# Altium schematic symbol library Schlib1.SchLib: 1 symbol
Pins are listed as number, name and electrical type; pins without a type are passive.

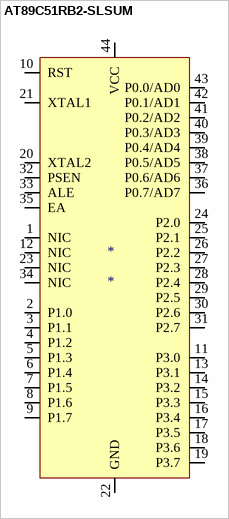
[diagram p0: symbol AT89C51RB2-SLSUM]

## AT89C51RB2-SLSUM
designator *
MCU 8-bit AT89 80C51 CISC 32KB Flash 3.3V/5V 44-Pin VQFP Tray; Manufacturer: Microchip / Atmel; Manufacturer Part Number: AT89C51RB2-SLSUM; Description: MCU 8-bit AT89 8051 CISC 16KB Flash 3.3V/5V 44-Pin PLCC Stick; Core Architecture: 8051; Interface: SPI,UART,USART; Peripherals: POR,PWM,WDT; RAM Size: 1.25KB; Max Power Dissipation: 1W; Number of I/Os: 32; Number of Timers/Counters: 3; Watchdog Timer: Yes; Max Supply Voltage: 5.5V; Min Supply Voltage: 2.7V; Frequency: 60MHz; Memory Size: 16KB; Oscillator Type: External; Data Bus Width: 8b; Access Time: 60us; Supplier 1: Digi-Key; RoHS: Yes; Category: Microcontrollers; Stock 1: 4189; Pricing 1: 1=5.21000, 25=4.78000, 100=4.33000 (USD); Mount: Surface Mount; Case/Package: PLCC; Number of Pins: 44; Contact Plating: Tin,Matte; Min Operating Temperature: -40°C; Max Operating Temperature: 85°C; Package Quantity: 972; Packaging: Rail/Tube; Memory Type: FLASH; Number of Programmable I/O: 32; Max Frequency: 60MHz; Address Bus Width: 8b; Radiation Hardening: No; Lead Free: Lead Free; REACH SVHC: No SVHC; ComponentLink1URL: https://datasheet.ciiva.com/15122/getdatasheetpartid-81444-15122117.pdf?src-supplier=Verical; ComponentLink1Description: https://datasheet.ciiva.com/15122/getdatasheetpartid-81444-15122117.pdf?src-supplier=Verical; ComponentLink2URL: https://datasheet.ciiva.com/26820/at89c51rb2-slsum-26820400.pdf?src-supplier=IIIC; ComponentLink2Description: https://datasheet.ciiva.com/26820/at89c51rb2-slsum-26820400.pdf?src-supplier=IIIC; ComponentLink3URL: https://datasheet.ciiva.com/24153/doc4180-24153718.pdf?src-supplier=Future+Electronics; ComponentLink3Description: https://datasheet.ciiva.com/24153/doc4180-24153718.pdf?src-supplier=Future+Electronics; ComponentLink4URL: https://datasheet.ciiva.com/3203/doc4180-3203035.pdf?src-supplier=Avnet; ComponentLink4Description: https://datasheet.ciiva.com/3203/doc4180-3203035.pdf?src-supplier=Avnet; ComponentLink5URL: https://datasheet.ciiva.com/22640/1626853-22640219.pdf?src-supplier=Element14; ComponentLink5Description: https://datasheet.ciiva.com/22640/1626853-22640219.pdf?src-supplier=Element14; Supplier Part Number 1: AT89C51RB2-SLSUM-ND; Supplier 2: Digi-Key; Stock 2: 1379; Pricing 2: 1=5.95000, 25=5.46000, 100=4.95000 (USD); Series: 89C; RoHS Compliant: Yes; ComponentLink6URL: https://datasheet.ciiva.com/22640/1626853-22640224.pdf?src-supplier=Element14; ComponentLink6Description: https://datasheet.ciiva.com/22640/1626853-22640224.pdf?src-supplier=Element14; ComponentLink7URL: https://datasheet.ciiva.com/26820/at89c51rc2-rltum-26820404.pdf?src-supplier=IIIC; ComponentLink7Description: https://datasheet.ciiva.com/26820/at89c51rc2-rltum-26820404.pdf?src-supplier=IIIC; ComponentLink8URL: https://datasheet.ciiva.com/9233/doc4180-9233990.pdf?src-supplier=Avnet; ComponentLink8Description: https://datasheet.ciiva.com/9233/doc4180-9233990.pdf?src-supplier=Avnet; ComponentLink9URL: https://datasheet.ciiva.com/6656/doc4180-6656425.pdf?src-supplier=Digi-Key; ComponentLink9Description: https://datasheet.ciiva.com/6656/doc4180-6656425.pdf?src-supplier=Digi-Key; ComponentLink10URL: https://datasheet.ciiva.com/26207/doc4180-26207493.pdf?src-supplier=Avnet+Europe; ComponentLink10Description: https://datasheet.ciiva.com/26207/doc4180-26207493.pdf?src-supplier=Avnet+Europe; Supplier Part Number 2: AT89C51RC2-RLTUM-ND
pins: 1 NIC, 2 P1.0, 3 P1.1, 4 P1.2, 5 P1.3, 6 P1.4, 7 P1.5, 8 P1.6, 9 P1.7, 10 RST, 11 P3.0, 12 NIC, 13 P3.1, 14 P3.2, 15 P3.3, 16 P3.4, 17 P3.5, 18 P3.6, 19 P3.7, 20 XTAL2, 21 XTAL1, 22 GND, 23 NIC, 24 P2.0, 25 P2.1, 26 P2.2, 27 P2.3, 28 P2.4, 29 P2.5, 30 P2.6, 31 P2.7, 32 PSEN, 33 ALE, 34 NIC, 35 EA, 36 P0.7/AD7, 37 P0.6/AD6, 38 P0.5/AD5, 39 P0.4/AD4, 40 P0.3/AD3, 41 P0.2/AD2, 42 P0.1/AD1, 43 P0.0/AD0, 44 VCC